# EAGLE library part UM232H (library LAB304)
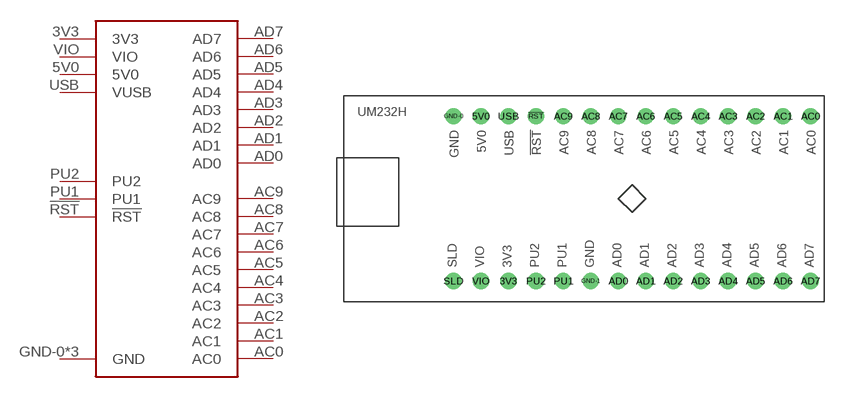
[diagram p3: symbol with the pads of UM232H; footprint UM232H]

Designator prefix U

## UM232H  [UM232H]
3V3  3V3  pwr
5V0  5V0
!RST  !RST
AC0  AC0
AC1  AC1
AC2  AC2
AC3  AC3
AC4  AC4
AC5  AC5
AC6  AC6
AC7  AC7
AC8  AC8
AC9  AC9
AD0  AD0
AD1  AD1
AD2  AD2
AD3  AD3
AD4  AD4
AD5  AD5
AD6  AD6
AD7  AD7
GND-0  GND  pwr
GND-1  GND  pwr
PU1  PU1
PU2  PU2
SLD  GND  pwr
USB  VUSB  out
VIO  VIO  pwr

## Footprint UM232H (pad centres in mm)
drill 1: 3V3 -11.43,-7.62; 5V0 -13.97,7.62; !RST -8.89,7.62; AC0 16.51,7.62; AC1 13.97,7.62; AC2 11.43,7.62; AC3 8.89,7.62; AC4 6.35,7.62; AC5 3.81,7.62; AC6 1.27,7.62; AC7 -1.27,7.62; AC8 -3.81,7.62; AC9 -6.35,7.62; AD0 -1.27,-7.62; AD1 1.27,-7.62; AD2 3.81,-7.62; AD3 6.35,-7.62; AD4 8.89,-7.62; AD5 11.43,-7.62; AD6 13.97,-7.62; AD7 16.51,-7.62; GND-0 -16.51,7.62; GND-1 -3.81,-7.62; PU1 -6.35,-7.62; PU2 -8.89,-7.62; SLD -16.51,-7.62; USB -11.43,7.62; VIO -13.97,-7.62